# Altium footprint library LED_5mm_YELLOW.PcbLib: 1 footprints
Each footprint in its own frame and in the unit in brackets; x right, y up, seen from the top. Pads: shape width x height; smd on the part's side, far side on the other; paste and mask are expansions set on the pad; w line width, h text height; cw(c..) or ccw(c..) is an arc to the next point about the centre after c.
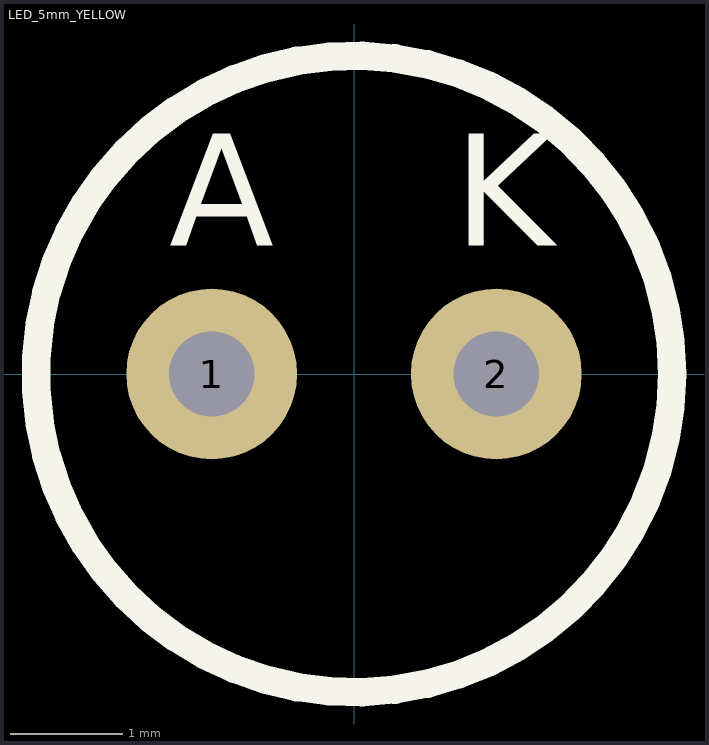
[diagram p0: the footprint, top view; thin cyan lines are the x and y axes]

## LED_5mm_YELLOW [mil]
pads (2):
  round 60 hole 30: 1(-50,0) 2(50,0)
Top Overlay:
  circle w10: c0,0 r111.8
  text "A" at -65,45 h39.37
  text "K" at 35,45 h39.37
3D body "LED 5MM YELLOW.STEP": height 493.11, standoff -60.04, extent -110.24,-110.24 110.24,110.24